# Altium schematic symbol library HC12.SchLib: 1 symbol
Pins are listed as number, name and electrical type; pins without a type are passive.

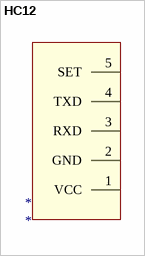
[diagram p0: symbol HC12]

## HC12
designator *
Local Supplier: HShop; Local Supplier Link: https://hshop.vn/products/mach-thu-phat-rf-uart-si4463-433mhzkhoang-coch-1km; Local Supplier Part Number: HS000897; Manufacturer: *; Manufacturer Part Number: *
footprint PCBComponent_1
pins: 1 VCC, 2 GND, 3 RXD, 4 TXD, 5 SET